# EAGLE library part DEVBIT-V1 (library CalvEngIO-Microcontrollers)
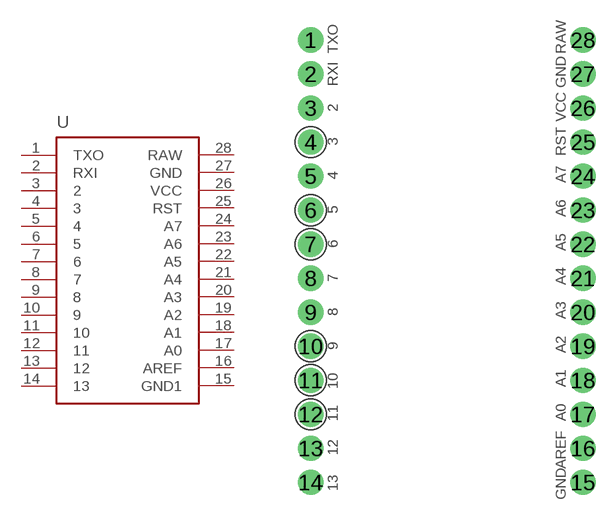
[diagram p1: symbol with the pads of DEVBIT-PKG-V2; footprint DEVBIT-PKG-V2]

Designator prefix -

## DEVBIT-V1  [DEVBIT-PKG-V2]
1  TXO
2  RXI
3  2
4  3
5  4
6  5
7  6
8  7
9  8
10  9
11  10
12  11
13  12
14  13
15  GND1
16  AREF
17  A0
18  A1
19  A2
20  A3
21  A4
22  A5
23  A6
24  A7
25  RST
26  VCC
27  GND
28  RAW

## Footprint DEVBIT-PKG-V2 (pad centres in mm)
drill 1.016 pad 1.88: 1 -10.16,16.51; 2 -10.16,13.97; 3 -10.16,11.43; 4 -10.16,8.89; 5 -10.16,6.35; 6 -10.16,3.81; 7 -10.16,1.27; 8 -10.16,-1.27; 9 -10.16,-3.81; 10 -10.16,-6.35; 11 -10.16,-8.89; 12 -10.16,-11.43; 13 -10.16,-13.97; 14 -10.16,-16.51; 15 10.16,-16.51; 16 10.16,-13.97; 17 10.16,-11.43; 18 10.16,-8.89; 19 10.16,-6.35; 20 10.16,-3.81; 21 10.16,-1.27; 22 10.16,1.27; 23 10.16,3.81; 24 10.16,6.35; 25 10.16,8.89; 26 10.16,11.43; 27 10.16,13.97; 28 10.16,16.51